# EAGLE library part ATTINY2313A (library growbot)
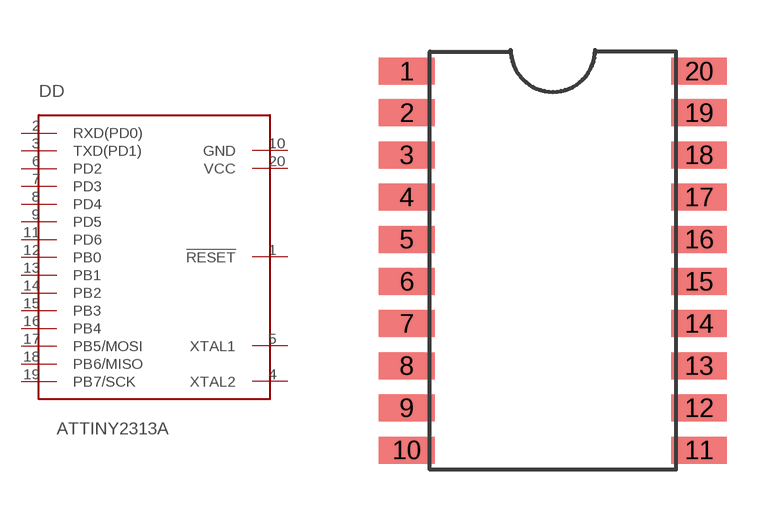
[diagram p0: symbol with the pads of SOIC20; footprint SOIC20]

Designator prefix DD

## ATTINY2313ASMD  [SOIC20]
1  !RESET!
2  RXD(PD0)
3  TXD(PD1)
4  XTAL2
5  XTAL1
6  PD2
7  PD3
8  PD4
9  PD5
10  GND
11  PD6
12  PB0
13  PB1
14  PB2
15  PB3
16  PB4
17  PB5/MOSI
18  PB6/MISO
19  PB7/SCK
20  VCC

## Footprint SOIC20 (pad centres in mm)
smd 1.676 x 0.813: 1 -4.4,5.7; 2 -4.4,4.45; 3 -4.4,3.18; 4 -4.4,1.91; 5 -4.4,0.64; 6 -4.4,-0.63; 7 -4.4,-1.9; 8 -4.4,-3.17; 9 -4.4,-4.44; 10 -4.4,-5.71; 11 4.4,-5.71; 12 4.4,-4.44; 13 4.4,-3.17; 14 4.4,-1.9; 15 4.4,-0.63; 16 4.4,0.64; 17 4.4,1.91; 18 4.4,3.18; 19 4.4,4.45; 20 4.4,5.7